# Altium footprint library MyLibrary.PcbLib: 24 footprints (part 2 of 2)
Each footprint in its own frame and in the unit in brackets; x right, y up, seen from the top. Pads: shape width x height; smd on the part's side, far side on the other; paste and mask are expansions set on the pad; w line width, h text height; cw(c..) or ccw(c..) is an arc to the next point about the centre after c.
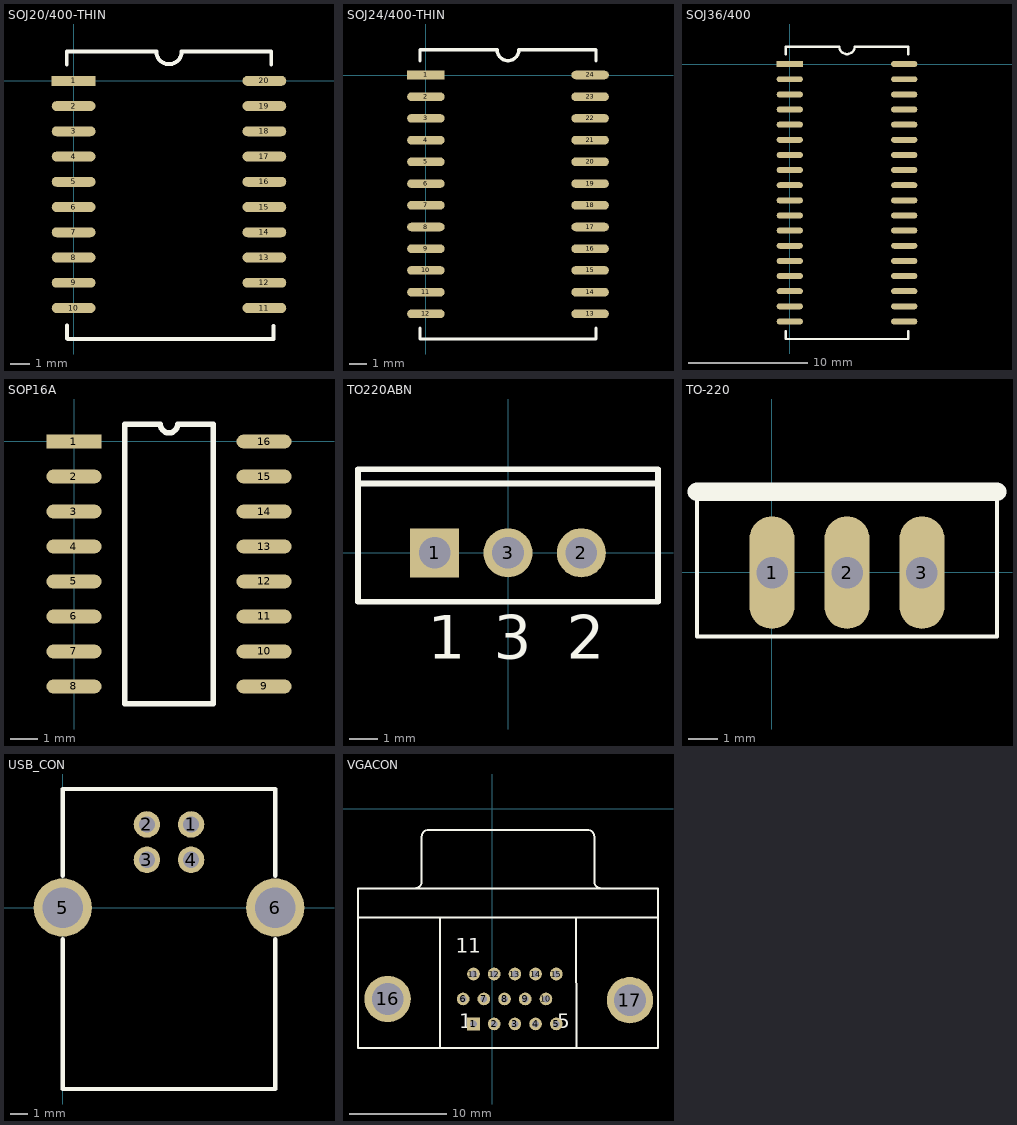
[diagram p1: the footprints below, top view; thin cyan lines are the x and y axes]

## SOJ20/400-THIN [mm]
pads (20):
  rect 2.2x0.5 smd: 1(0.001,-0.007)
  oval 2.2x0.5 smd: 2(0.001,-1.277) 3(0.001,-2.547) 4(0.001,-3.817) 5(0.001,-5.087) 6(0.001,-6.357) 7(0.001,-7.627) 8(0.001,-8.897) 9(0.001,-10.167) 10(0.001,-11.437) 11(9.601,-11.437) 12(9.601,-10.167) 13(9.601,-8.897) 14(9.601,-7.627) 15(9.601,-6.357) 16(9.601,-5.087) 17(9.601,-3.817) 18(9.601,-2.547) 19(9.601,-1.277) 20(9.601,-0.007)
Top Overlay:
  lines w0.2: -0.344,0.818 -0.344,1.463 4.166,1.463 ccw(c4.801,1.463) 5.436,1.463 9.946,1.463 9.946,0.818 ; -0.329,-12.971 -0.329,-12.326 ; -0.278,-12.987 10.012,-12.987 ; 10.06,-12.997 10.06,-12.352

## SOJ24/400-THIN [mm]
pads (24):
  rect 2.2x0.5 smd: 1(0.008,0.001)
  oval 2.2x0.5 smd: 2(0.008,-1.269) 3(0.008,-2.539) 4(0.008,-3.809) 5(0.008,-5.079) 6(0.008,-6.349) 7(0.008,-7.619) 8(0.008,-8.889) 9(0.008,-10.159) 10(0.008,-11.429) 11(0.008,-12.699) 12(0.008,-13.969) 13(9.608,-13.969) 14(9.608,-12.699) 15(9.608,-11.429) 16(9.608,-10.159) 17(9.608,-8.889) 18(9.608,-7.619) 19(9.608,-6.349) 20(9.608,-5.079) 21(9.608,-3.809) 22(9.608,-2.539) 23(9.608,-1.269) 24(9.608,0.001)
Top Overlay:
  lines w0.2: -0.337,-14.794 -0.337,-15.439 9.953,-15.439 9.953,-14.794 ; -0.337,0.826 -0.337,1.471 4.173,1.471 ccw(c4.808,1.471) 5.443,1.471 9.953,1.471 9.953,0.826

## SOJ36/400 [mm]
pads (36):
  rect 2.2x0.5 smd: 1(0.001,0.001)
  oval 2.2x0.5 smd: 2(0.001,-1.269) 3(0.001,-2.539) 4(0.001,-3.809) 5(0.001,-5.079) 6(0.001,-6.349) 7(0.001,-7.619) 8(0.001,-8.889) 9(0.001,-10.159) 10(0.001,-11.429) 11(0.001,-12.699) 12(0.001,-13.969) 13(0.001,-15.239) 14(0.001,-16.509) 15(0.001,-17.779) 16(0.001,-19.049) 17(0.001,-20.319) 18(0.001,-21.589) 19(9.601,-21.589) 20(9.601,-20.319) 21(9.601,-19.049) 22(9.601,-17.779) 23(9.601,-16.509) 24(9.601,-15.239) 25(9.601,-13.969) 26(9.601,-12.699) 27(9.601,-11.429) 28(9.601,-10.159) 29(9.601,-8.889) 30(9.601,-7.619) 31(9.601,-6.349) 32(9.601,-5.079) 33(9.601,-3.809) 34(9.601,-2.539) 35(9.601,-1.269) 36(9.601,0.001)
Top Overlay:
  lines w0.2: -0.344,-22.414 -0.344,-23.059 9.946,-23.059 9.946,-22.414 ; -0.344,0.826 -0.344,1.471 4.166,1.471 ccw(c4.801,1.471) 5.436,1.471 9.946,1.471 9.946,0.826

## SOP16A [mm]
pads (16):
  rect 2x0.5 smd: 1(-0.007,-0.012)
  oval 2x0.5 smd: 2(-0.007,-1.282) 3(-0.007,-2.552) 4(-0.007,-3.822) 5(-0.007,-5.092) 6(-0.007,-6.362) 7(-0.007,-7.632) 8(-0.007,-8.902) 9(6.893,-8.902) 10(6.893,-7.632) 11(6.893,-6.362) 12(6.893,-5.092) 13(6.893,-3.822) 14(6.893,-2.552) 15(6.893,-1.282) 16(6.893,-0.012)
Top Overlay:
  lines w0.2: 1.828,-9.537 1.828,0.623 3.125,0.623 ccw(c3.443,0.623) 3.76,0.623 5.058,0.623 5.058,-9.537 1.828,-9.537

## TO220ABN [mm]
pads (3):
  rect 1.7x1.7 hole 1.1: 1(-2.545,-0.005)
  round 1.7 hole 1.1: 2(2.535,-0.005) 3(-0.005,-0.005)
Top Overlay:
  lines w0.2: -5.205,2.395 5.195,2.395 ; -5.205,-1.705 5.195,-1.705 5.195,2.895 -5.205,2.895 -5.205,-1.705
  text "3" at -0.505,-3.68 h1.5
  text "2" at 2.035,-3.68 h1.5
  text "1" at -2.795,-3.68 h1.5

## TO-220 [mil]
pads (3):
  oval 60x150 hole 42: 1(0.16,-0.48) 2(100.16,-0.48) 3(200.16,-0.48)
Top Overlay:
  lines w5: -99.84,107.52 -99.84,-85.48 300.16,-85.48 300.16,107.52
  lines w25: -99.84,107.52 300.16,107.52

## USB_CON [mm]
pads (6):
  round 1.5 hole 0.92: 1(7.273,4.712) 2(4.773,4.712) 3(4.773,2.712) 4(7.273,2.712)
  round 3.3 hole 2.3: 5(0.003,0.002) 6(12.043,0.002)
Top Overlay:
  lines w0.254: 0.003,-1.798 0.003,-10.278 12.043,-10.278 12.043,-1.798 ; 0.003,1.802 0.003,6.722 12.043,6.722 12.043,1.802

## VGACON [mm]
pads (17):
  rect 1.3x1.3 hole 0.7: 1(-1.939,-22.069)
  round 1.3 hole 0.7: 2(0.186,-22.069) 3(2.311,-22.069) 4(4.436,-22.069) 5(6.561,-22.069) 6(-3.001,-19.506) 7(-0.876,-19.506) 8(1.249,-19.506) 9(3.374,-19.506) 10(5.499,-19.506) 11(-1.939,-16.944) 12(0.186,-16.944) 13(2.311,-16.944) 14(4.436,-16.944) 15(6.561,-16.944)
  round 4.76 hole 3.26: 16(-10.751,-19.506) 17(14.124,-19.631)
Top Overlay:
  lines w0.2: -13.795,-11.15 17.005,-11.15 ; -7.955,-8.145 ccw(c-7.955,-7.45) -7.26,-7.45 -7.26,-2.85 ; -7.255,-2.845 cw(c-6.56,-2.845) -6.56,-2.15 9.77,-2.15 cw(c9.77,-2.845) 10.465,-2.845 ; -5.395,-11.15 -5.376,-24.55 ; 8.605,-11.15 8.624,-24.55 ; 10.47,-2.85 10.47,-7.45 ccw(c11.165,-7.45) 11.165,-8.145 ; -13.795,-24.55 17.005,-24.55 17.005,-8.15 -13.795,-8.15 -13.795,-24.55
  text "11" at -3.751,-14.756 h1.5
  text "5" at 6.645,-22.525 h1.5
  text "1" at -3.376,-22.506 h1.5